# EAGLE library part FAN5362 (library BaseApp)
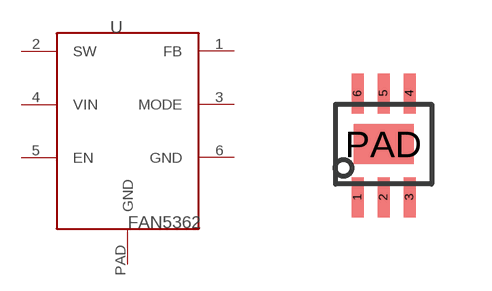
[diagram p137: symbol with the pads of 6-UDFN; footprint 6-UDFN]

Designator prefix -

## FAN5362 (DIGIKEY: FAN5362UMP33XCT-ND; PRICE_PER_UNIT: 1.12)  [6-UDFN]
1  FB
2  SW
3  MODE
4  VIN
5  EN
6  GND
PAD  GND

## Footprint 6-UDFN (pad centres in mm)
smd 0.3 x 1: 1 -0.65,-1.33; 2 0,-1.33; 3 0.65,-1.33; 4 0.65,1.27; 5 0,1.27; 6 -0.65,1.27
smd 1.5 x 1: PAD 0,0